# EAGLE library part MCP73833 (library PowerIC)
Manufacturer Part Number: MCP73833-AMI/UN Mouser Part Number: 579-MCP73833-AMI/UN
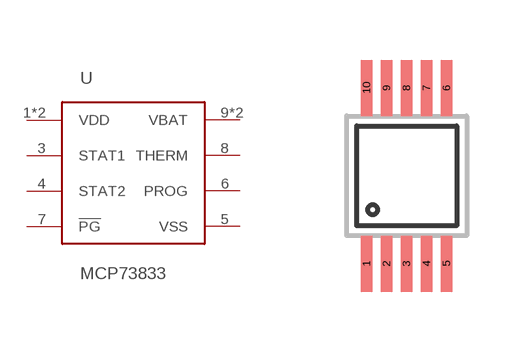
[diagram p1: symbol with the pads of MSOP10; footprint MSOP10]

Designator prefix U

## MCP73833  [MSOP10]
1  VDD
2  VDD
3  STAT1
4  STAT2
5  VSS
6  PROG
7  !PG
8  THERM
9  VBAT
10  VBAT

## Footprint MSOP10 (pad centres in mm)
smd 0.28 x 1.4: 1 -1,-2.2; 2 -0.5,-2.2; 3 0,-2.2; 4 0.5,-2.2; 5 1,-2.2; 6 1,2.2; 7 0.5,2.2; 8 0,2.2; 9 -0.5,2.2; 10 -1,2.2